# Altium schematic symbol library Connectors.SchLib: 44 symbols
Pins are listed as number, name and electrical type; pins without a type are passive.

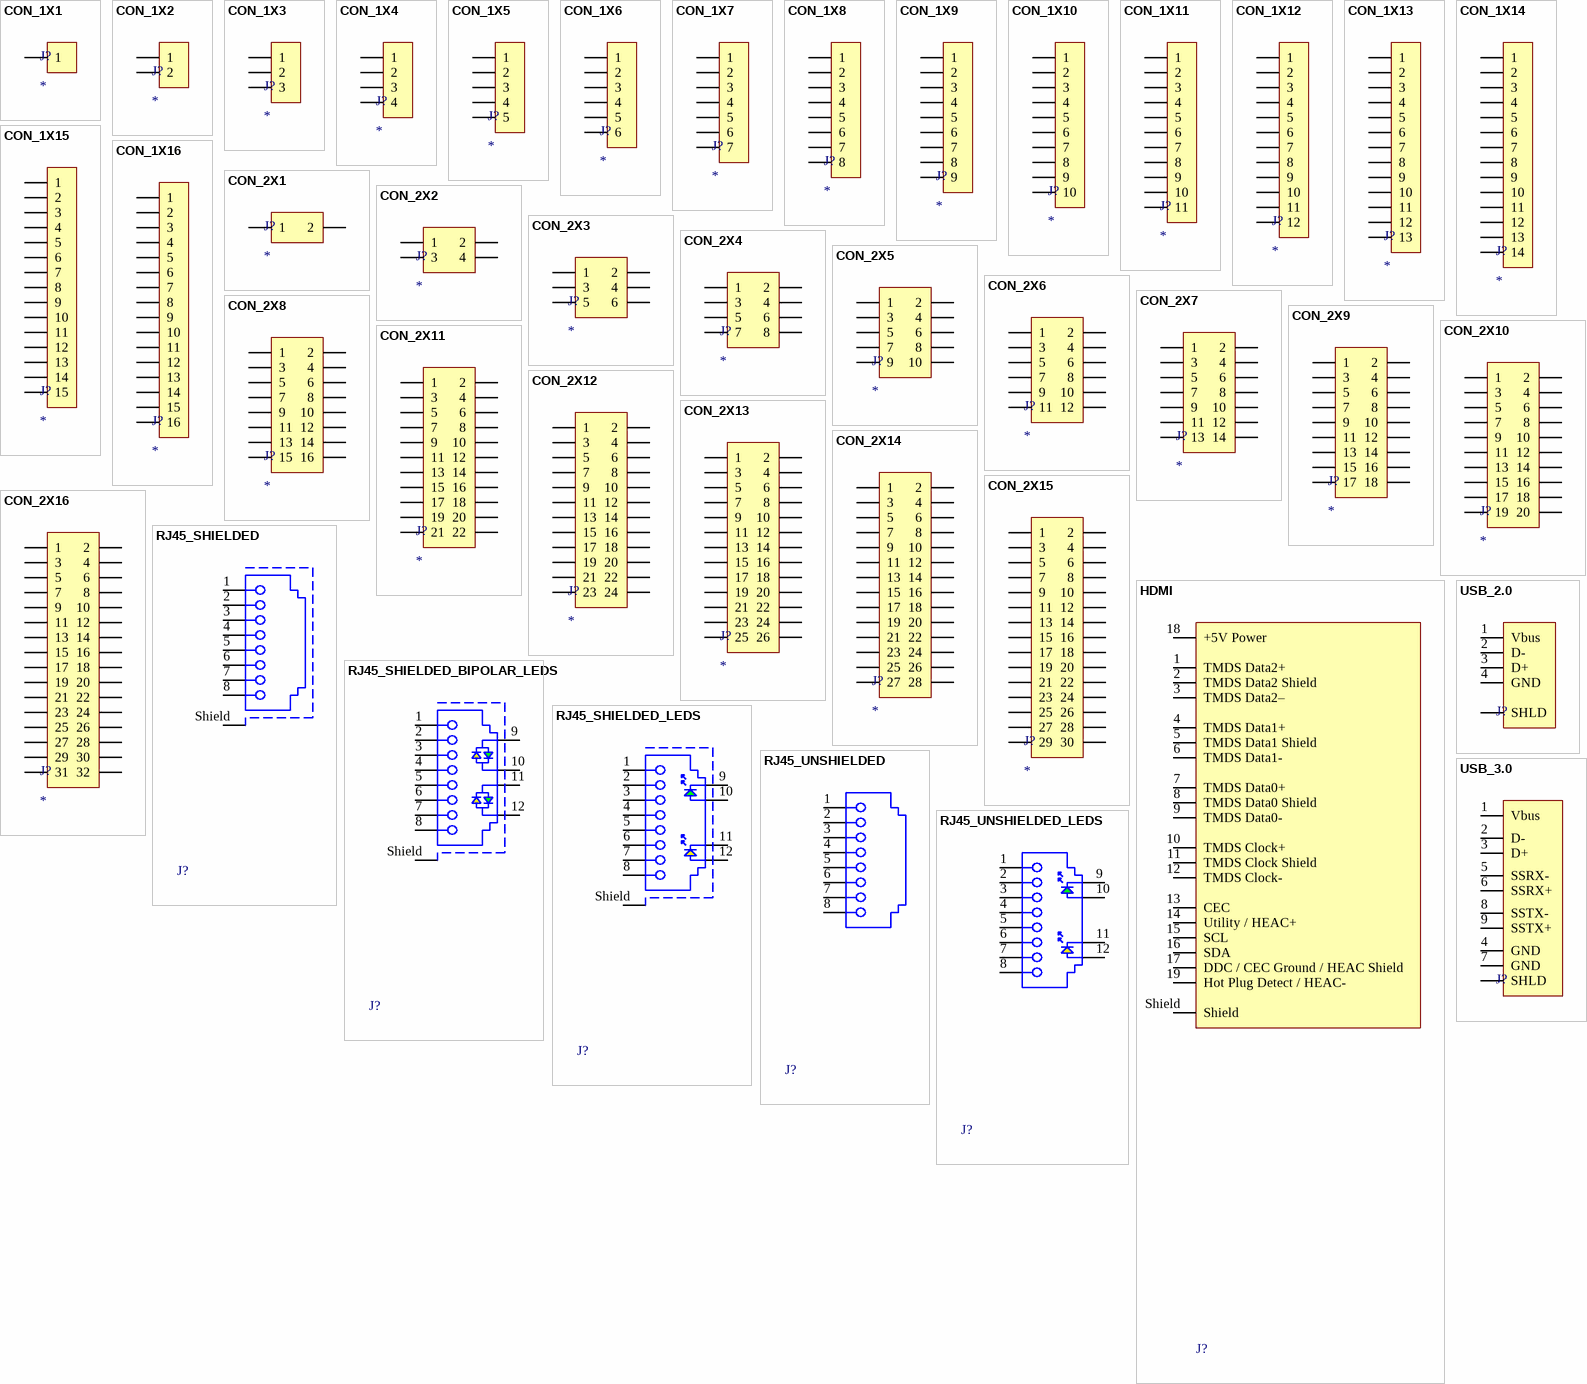
[diagram p0: symbols CON_1X1 to USB_3.0]

## CON_1X1
designator J?
pins: 1

## CON_1X2
designator J?
pins: 1, 2

## CON_1X3
designator J?
pins: 1, 2, 3

## CON_1X4
designator J?
pins: 1, 2, 3, 4

## CON_1X5
designator J?
pins: 1, 2, 3, 4, 5

## CON_1X6
designator J?
pins: 1, 2, 3, 4, 5, 6

## CON_1X7
designator J?
pins: 1, 2, 3, 4, 5, 6, 7

## CON_1X8
designator J?
pins: 1, 2, 3, 4, 5, 6, 7, 8

## CON_1X9
designator J?
pins: 1, 2, 3, 4, 5, 6, 7, 8, 9

## CON_1X10
designator J?
pins: 1, 2, 3, 4, 5, 6, 7, 8, 9, 10

## CON_1X11
designator J?
pins: 1, 2, 3, 4, 5, 6, 7, 8, 9, 10, 11

## CON_1X12
designator J?
pins: 1, 2, 3, 4, 5, 6, 7, 8, 9, 10, 11, 12

## CON_1X13
designator J?
pins: 1, 2, 3, 4, 5, 6, 7, 8, 9, 10, 11, 12, 13

## CON_1X14
designator J?
pins: 1, 2, 3, 4, 5, 6, 7, 8, 9, 10, 11, 12, 13, 14

## CON_1X15
designator J?
pins: 1, 2, 3, 4, 5, 6, 7, 8, 9, 10, 11, 12, 13, 14, 15

## CON_1X16
designator J?
pins: 1, 2, 3, 4, 5, 6, 7, 8, 9, 10, 11, 12, 13, 14, 15, 16

## CON_2X1
designator J?
pins: 1, 2

## CON_2X2
designator J?
pins: 1, 2, 3, 4

## CON_2X3
designator J?
pins: 1, 2, 3, 4, 5, 6

## CON_2X4
designator J?
pins: 1, 2, 3, 4, 5, 6, 7, 8

## CON_2X5
designator J?
pins: 1, 2, 3, 4, 5, 6, 7, 8, 9, 10

## CON_2X6
designator J?
pins: 1, 2, 3, 4, 5, 6, 7, 8, 9, 10, 11, 12

## CON_2X7
designator J?
pins: 1, 2, 3, 4, 5, 6, 7, 8, 9, 10, 11, 12, 13, 14

## CON_2X8
designator J?
pins: 1, 2, 3, 4, 5, 6, 7, 8, 9, 10, 11, 12, 13, 14, 15, 16

## CON_2X9
designator J?
pins: 1, 2, 3, 4, 5, 6, 7, 8, 9, 10, 11, 12, 13, 14, 15, 16, 17, 18

## CON_2X10
designator J?
pins: 1, 2, 3, 4, 5, 6, 7, 8, 9, 10, 11, 12, 13, 14, 15, 16, 17, 18, 19, 20

## CON_2X11
designator J?
pins: 1, 2, 3, 4, 5, 6, 7, 8, 9, 10, 11, 12, 13, 14, 15, 16, 17, 18, 19, 20, 21, 22

## CON_2X12
designator J?
pins: 1, 2, 3, 4, 5, 6, 7, 8, 9, 10, 11, 12, 13, 14, 15, 16, 17, 18, 19, 20, 21, 22, 23, 24

## CON_2X13
designator J?
pins: 1, 2, 3, 4, 5, 6, 7, 8, 9, 10, 11, 12, 13, 14, 15, 16, 17, 18, 19, 20, 21, 22, 23, 24, 25, 26

## CON_2X14
designator J?
pins: 1, 2, 3, 4, 5, 6, 7, 8, 9, 10, 11, 12, 13, 14, 15, 16, 17, 18, 19, 20, 21, 22, 23, 24, 25, 26, 27, 28

## CON_2X15
designator J?
pins: 1, 2, 3, 4, 5, 6, 7, 8, 9, 10, 11, 12, 13, 14, 15, 16, 17, 18, 19, 20, 21, 22, 23, 24, 25, 26, 27, 28, 29, 30

## CON_2X16
designator J?
pins: 1, 2, 3, 4, 5, 6, 7, 8, 9, 10, 11, 12, 13, 14, 15, 16, 17, 18, 19, 20, 21, 22, 23, 24, 25, 26, 27, 28, 29, 30, 31, 32

## HDMI
designator J?
HDMI Connector
pins: 1 TMDS Data2+, 2 TMDS Data2 Shield, 3 TMDS Data2–, 4 TMDS Data1+, 5 TMDS Data1 Shield, 6 TMDS Data1-, 7 TMDS Data0+, 8 TMDS Data0 Shield, 9 TMDS Data0-, 10 TMDS Clock+, 11 TMDS Clock Shield, 12 TMDS Clock-, 13 CEC, 14 Utility / HEAC+, 15 SCL, 16 SDA, 17 DDC / CEC Ground / HEAC Shield, 18 +5V Power, 19 Hot Plug Detect / HEAC-, Shield

## RJ45_SHIELDED
designator J?
Modular Jack Shielded 8P8C
pins: 1, 2, 3, 4, 5, 6, 7, 8, Shield

## RJ45_SHIELDED_BIPOLAR_LEDS
designator J?, comment 615008142121  (value not drawn)
Modular Jack  Shielded 8P8C with bipolar LEDs
pins: 1, 2, 3, 4, 5, 6, 7, 8, 9, 10, 11, 12, Shield

## RJ45_SHIELDED_LEDS
designator J?, comment 615008137421  (value not drawn)
Modular Jack Shielded 8P8C with LED Y/G
pins: 1, 2, 3, 4, 5, 6, 7, 8, 9, 10, 11, 12, Shield

## RJ45_UNSHIELDED
designator J?
Modular Jack Unshielded 8P8C
pins: 1, 2, 3, 4, 5, 6, 7, 8

## RJ45_UNSHIELDED_LEDS
designator J?
Modular Jack Unshielded 8P8C with LED Y/G; Manufacturer Part Number: 615008150121; Manufacturer: Wurth Elektronik; Match Code: WR-MJ; Contact Resistance: 20mΩ; Insulation Resistance: 1000MΩ; Number of Ports: 1; Rated Current: 1.5A; Shielding: No; Working Voltage: 125VAC; Withstanding Voltage: 1000VAC; ComponentLink1Description: Website Link; ComponentLink1URL: https://www.we-online.com/redexpert/article/615008150121?ad; ComponentLink2Description: Datasheet Link; ComponentLink2URL: https://www.we-online.com/redexpert/spec/615008150121?ad; Category: Input/Output Connectors; Mount: Through Hole; Operating Temperature Max: 85°C; Operating Temperature Min: -40°C; Packaging: Tray; LED: Y/G; Number of Pins: 8P8C; Orientation: Horizontal
footprint 615008150121
pins: 1, 2, 3, 4, 5, 6, 7, 8, 9, 10, 11, 12

## USB_2.0
designator J?  (value not drawn)
pins: 1 Vbus, 2 D-, 3 D+, 4 GND, S SHLD

## USB_3.0
designator J?  (value not drawn)
pins: 1 Vbus, 2 D-, 3 D+, 4 GND, 5 SSRX-, 6 SSRX+, 7 GND, 8 SSTX-, 9 SSTX+, S SHLD

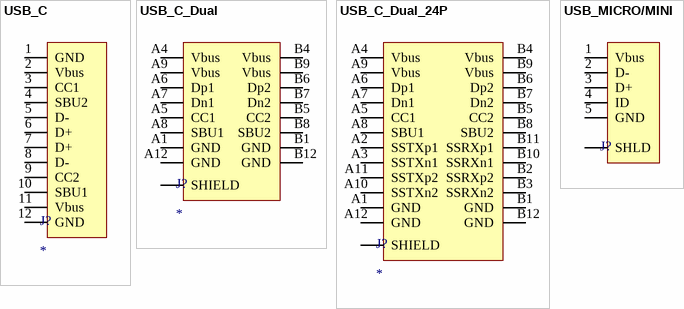
[diagram p1: symbols USB_C to USB_MICRO/MINI]

## USB_C
designator J?
pins: 1 GND, 2 Vbus, 3 CC1, 4 SBU2, 5 D-, 6 D+, 7 D+, 8 D-, 9 CC2, 10 SBU1, 11 Vbus, 12 GND

## USB_C_Dual
designator J?
pins: A1 GND, A4 Vbus, A5 CC1, A6 Dp1, A7 Dn1, A8 SBU1, A9 Vbus, A12 GND, B1 GND, B4 Vbus, B5 CC2, B6 Dp2, B7 Dn2, B8 SBU2, B9 Vbus, B12 GND, S SHIELD

## USB_C_Dual_24P
designator J?
USB C 24P connector
pins: A1 GND, A2 SSTXp1, A3 SSTXn1, A4 Vbus, A5 CC1, A6 Dp1, A7 Dn1, A8 SBU1, A9 Vbus, A10 SSTXn2, A11 SSTXp2, A12 GND, B1 GND, B2 SSRXp2, B3 SSRXn2, B4 Vbus, B5 CC2, B6 Dp2, B7 Dn2, B8 SBU2, B9 Vbus, B10 SSRXn1, B11 SSRXp1, B12 GND, S SHIELD

## USB_MICRO/MINI
designator J?  (value not drawn)
pins: 1 Vbus, 2 D-, 3 D+, 4 ID, 5 GND, S SHLD